# Altium integrated library RMCF1206FT4K70.IntLib: 1 symbol
Pins are listed as number, name and electrical type; pins without a type are passive.

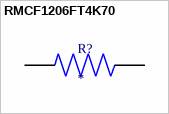
[diagram p0: symbol RMCF1206FT4K70]

## RMCF1206FT4K70
designator R?
MP: RMCF1206FT4K70; Package: None; Price: None; Value: *; Availability: Unavailable
footprint RESC3216X70N
pins: 1, 2